# Altium footprint library clock_module.PcbLib: 6 footprints
Each footprint in its own frame and in the unit in brackets; x right, y up, seen from the top. Pads: shape width x height; smd on the part's side, far side on the other; paste and mask are expansions set on the pad; w line width, h text height; cw(c..) or ccw(c..) is an arc to the next point about the centre after c.
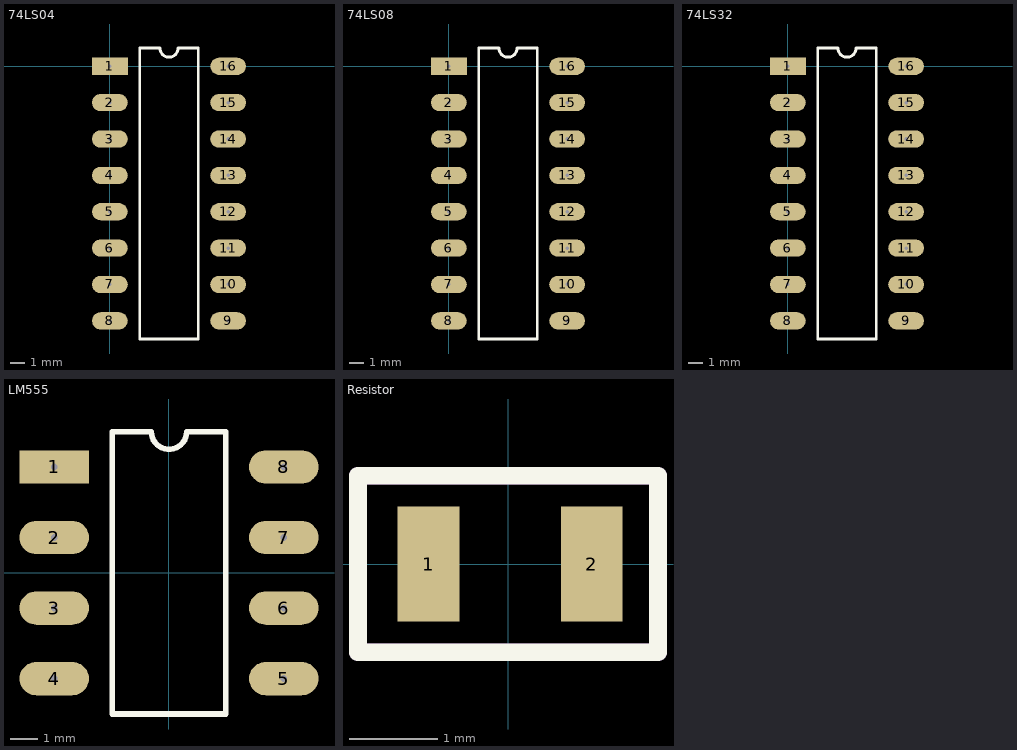
[diagram p0: the footprints below, top view; thin cyan lines are the x and y axes]

## 74LS04 [mm]
pads (16):
  rect 2.5x1.2 hole 0.25: 1(0,0)
  oval 2.5x1.2 hole 0.25: 2(0,-2.54) 3(0,-5.08) 4(0,-7.62) 5(0,-10.16) 6(0,-12.7) 7(0,-15.24) 8(0,-17.78) 9(8.26,-17.78) 10(8.26,-15.24) 11(8.26,-12.7) 12(8.26,-10.16) 13(8.26,-7.62) 14(8.26,-5.08) 15(8.26,-2.54) 16(8.26,0)
Top Overlay:
  lines w0.2: 2.085,-19.05 6.175,-19.05 6.175,1.27 4.765,1.27 cw(c4.13,1.27) 3.495,1.27 2.085,1.27 2.085,-19.05

## 74LS08 [mm]
pads (16):
  rect 2.5x1.2 hole 0.25: 1(0,0)
  oval 2.5x1.2 hole 0.25: 2(0,-2.54) 3(0,-5.08) 4(0,-7.62) 5(0,-10.16) 6(0,-12.7) 7(0,-15.24) 8(0,-17.78) 9(8.26,-17.78) 10(8.26,-15.24) 11(8.26,-12.7) 12(8.26,-10.16) 13(8.26,-7.62) 14(8.26,-5.08) 15(8.26,-2.54) 16(8.26,0)
Top Overlay:
  lines w0.2: 2.085,-19.05 2.085,1.27 3.495,1.27 ccw(c4.13,1.27) 4.765,1.27 6.175,1.27 6.175,-19.05 2.085,-19.05

## 74LS32 [mm]
pads (16):
  rect 2.5x1.2 hole 0.25: 1(0,0)
  oval 2.5x1.2 hole 0.25: 2(0,-2.54) 3(0,-5.08) 4(0,-7.62) 5(0,-10.16) 6(0,-12.7) 7(0,-15.24) 8(0,-17.78) 9(8.26,-17.78) 10(8.26,-15.24) 11(8.26,-12.7) 12(8.26,-10.16) 13(8.26,-7.62) 14(8.26,-5.08) 15(8.26,-2.54) 16(8.26,0)
Top Overlay:
  lines w0.2: 2.085,-19.05 6.175,-19.05 6.175,1.27 4.765,1.27 cw(c4.13,1.27) 3.495,1.27 2.085,1.27 2.085,-19.05

## LM555 [mm]
pads (8):
  rect 2.5x1.2 hole 0.25: 1(-4.13,3.81)
  oval 2.5x1.2 hole 0.25: 2(-4.13,1.27) 3(-4.13,-1.27) 4(-4.13,-3.81) 5(4.13,-3.81) 6(4.13,-1.27) 7(4.13,1.27) 8(4.13,3.81)
Top Overlay:
  lines w0.2: -2.045,-5.08 2.045,-5.08 2.045,5.08 0.635,5.08 cw(c0,5.08) -0.635,5.08 -2.045,5.08 -2.045,-5.08

## PCBComponent_1 [mm]

## Resistor [mm]
pads (2):
  rect 0.7x1.3 smd: 1(-0.9,0) 2(0.95,0)
Top Overlay:
  lines w0.2: -1.7,-1 1.7,-1 1.7,1 -1.7,1 -1.7,-1
Mechanical 1:
  lines w0.2: -1.7,-1 1.7,-1 ; -1.7,-1 -1.7,1 ; -1.7,-1 1.7,-1 ; -1.7,-1 -1.7,1 ; -1.7,1 1.7,1 ; -1.7,1 1.7,1 ; 1.7,-1 1.7,1 ; 1.7,-1 1.7,1